# EAGLE library part SP3485 (library TinWhiskers)
Transceiver: RS-485 Chip; Package: SOICN-8; Datasheet: http://www.exar.com/common/content/document.ashx?id=639
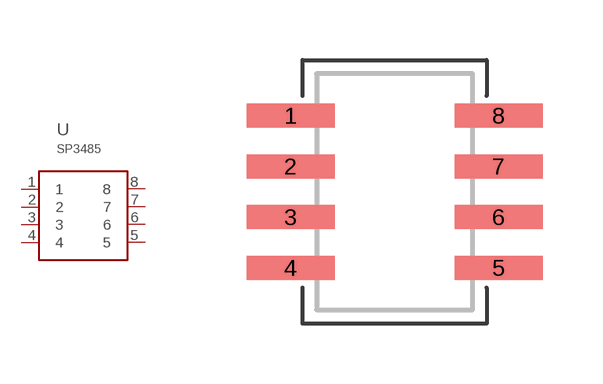
[diagram p14: symbol with the pads of SOICN-8; footprint SOICN-8]

Designator prefix U

## SP3485  [SOICN-8]
1  1
2  2
3  3
4  4
5  5
6  6
7  7
8  8

## Footprint SOICN-8 (pad centres in mm)
SOIC-8 (Narrow)
smd 2.2 x 0.6: 1 -2.6,1.905; 2 -2.6,0.635; 3 -2.6,-0.635; 4 -2.6,-1.905; 5 2.6,-1.905; 6 2.6,-0.635; 7 2.6,0.635; 8 2.6,1.905